# Altium footprint library Miscellaneous Devices LC.PcbLib: 559 footprints (part 3 of 35)
Each footprint in its own frame and in the unit in brackets; x right, y up, seen from the top. Pads: shape width x height; smd on the part's side, far side on the other; paste and mask are expansions set on the pad; w line width, h text height; cw(c..) or ccw(c..) is an arc to the next point about the centre after c.
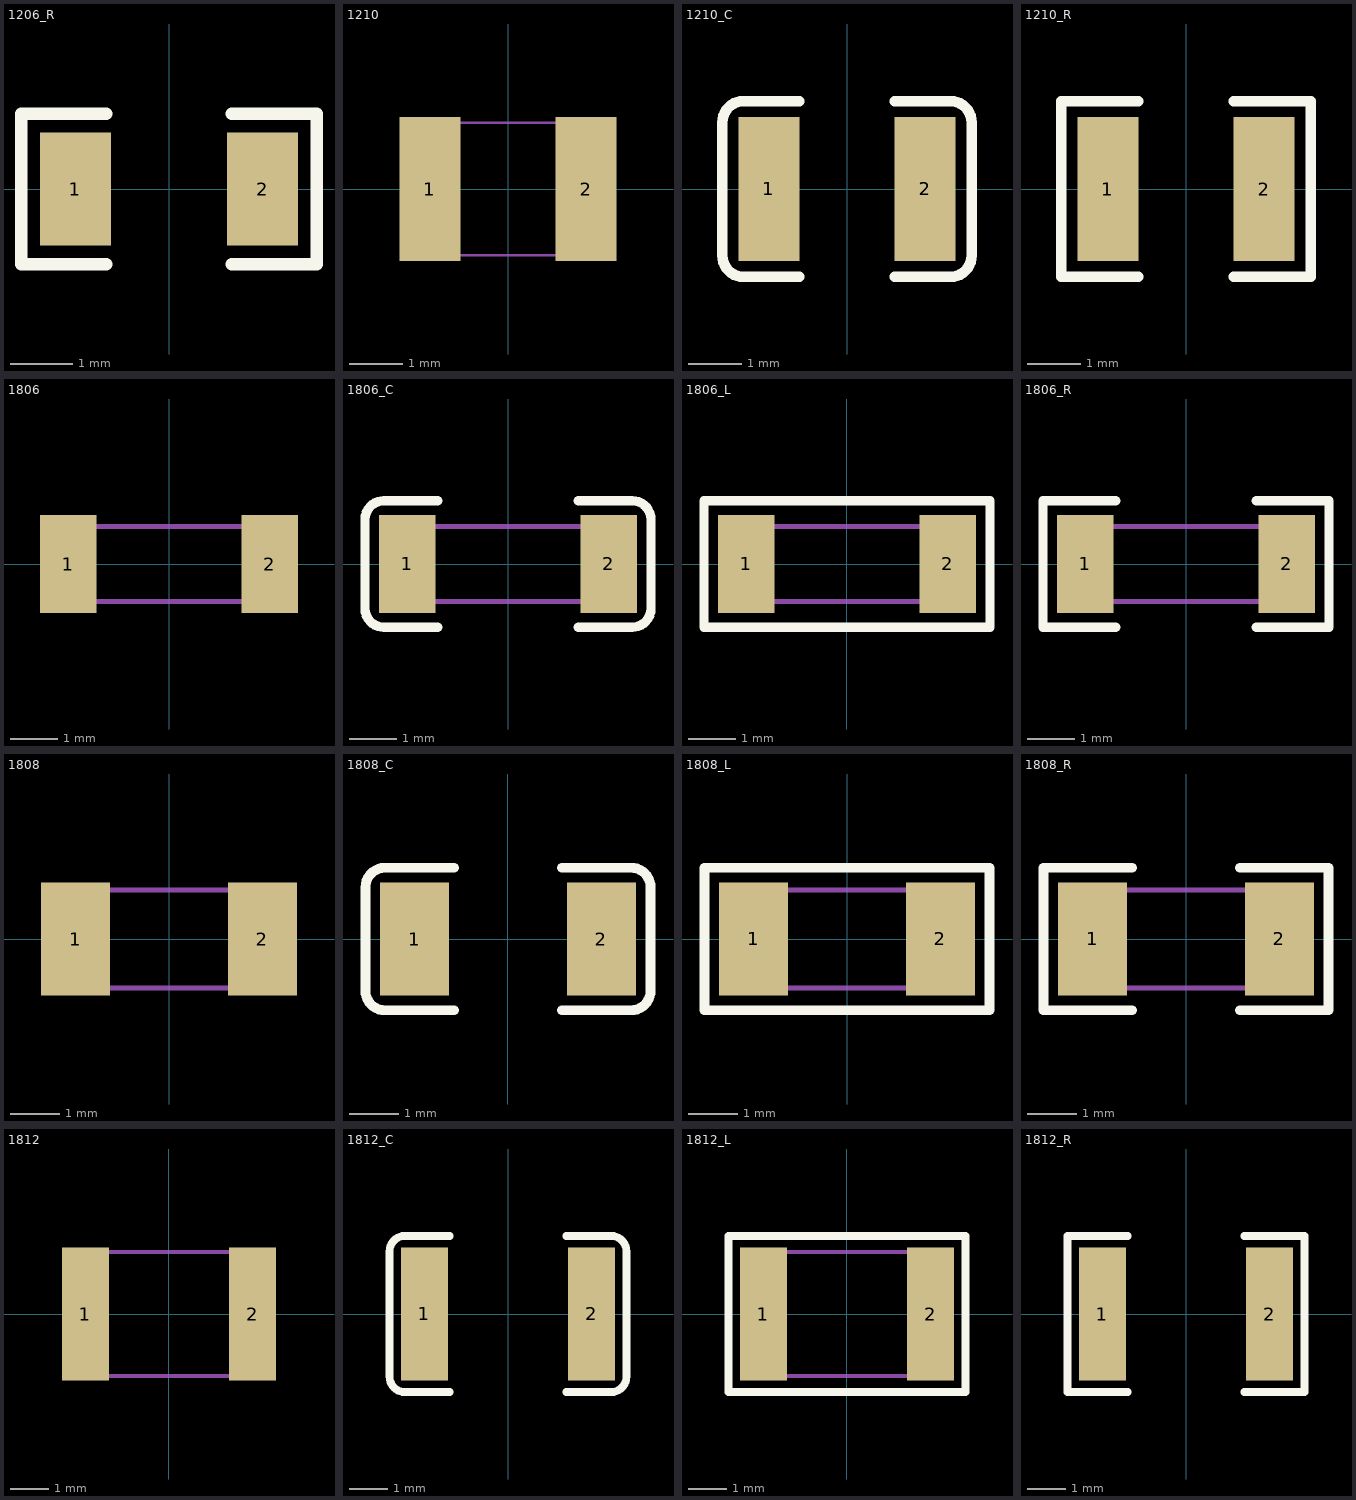
[diagram p2: the footprints below, top view; thin cyan lines are the x and y axes]

## 1206_R [mm]
pads (2):
  rect 1.13x1.8 smd: 1(-1.49,0) 2(1.49,0)
Top Overlay:
  lines w0.2: -1,-1.2 -2.355,-1.2 -2.355,1.2 -1,1.2 ; 1,-1.2 2.355,-1.2 2.355,1.2 1,1.2
3D body "User Library-RES_3216-1206.STEP": height 0.85, standoff 0, extent -1.7,-0.864 1.65,0.866

## 1210 [mm]
pads (2):
  rect 1.16x2.72 smd: 1(-1.475,0) 2(1.475,0)
Mechanical 13:
  lines w0.05: -1.6,-1.25 -1.6,1.25 1.6,1.25 1.6,-1.25 -1.6,-1.25

## 1210_C [mm]
pads (2):
  rect 1.16x2.72 smd: 1(-1.475,0) 2(1.475,0)
Top Overlay:
  lines w0.2: -0.9,-1.66 -1.955,-1.66 cw(c-1.955,-1.26) -2.355,-1.26 -2.355,1.26 cw(c-1.955,1.26) -1.955,1.66 -0.9,1.66 ; 0.9,-1.66 1.955,-1.66 ccw(c1.955,-1.26) 2.355,-1.26 2.355,1.26 ccw(c1.955,1.26) 1.955,1.66 0.9,1.66
3D body "User Library-cap_1210_lowprofile.step": height 1.3, standoff 0, extent -1.6,-1.25 1.6,1.25

## 1210_R [mm]
pads (2):
  rect 1.16x2.72 smd: 1(-1.475,0) 2(1.475,0)
Top Overlay:
  lines w0.2: -0.9,-1.66 -2.355,-1.66 -2.355,1.66 -0.9,1.66 ; 0.9,-1.66 2.355,-1.66 2.355,1.66 0.9,1.66
3D body "User Library-R_1210.STEP": height 0.6, standoff 0, extent -1.6,-1.25 1.6,1.25

## 1806 [mm]
pads (2):
  rect 1.2x2.1 smd: 1(-2.15,0) 2(2.15,0)
Mechanical 13:
  lines w0.1: -2.25,-0.8 -2.25,0.8 2.25,0.8 2.25,-0.8 -2.25,-0.8

## 1806_C [mm]
pads (2):
  rect 1.2x2.1 smd: 1(-2.15,0) 2(2.15,0)
Top Overlay:
  lines w0.2: -1.5,-1.35 -2.65,-1.35 cw(c-2.65,-0.95) -3.05,-0.95 -3.05,0.95 cw(c-2.65,0.95) -2.65,1.35 -1.5,1.35 ; 1.5,-1.35 2.65,-1.35 ccw(c2.65,-0.95) 3.05,-0.95 3.05,0.95 ccw(c2.65,0.95) 2.65,1.35 1.5,1.35
Mechanical 13:
  lines w0.1: -2.25,-0.8 -2.25,0.8 2.25,0.8 2.25,-0.8 -2.25,-0.8

## 1806_L [mm]
pads (2):
  rect 1.2x2.1 smd: 1(-2.15,0) 2(2.15,0)
Top Overlay:
  lines w0.2: -3.05,-1.35 -3.05,1.35 3.05,1.35 3.05,-1.35 -3.05,-1.35
Mechanical 13:
  lines w0.1: -2.25,-0.8 -2.25,0.8 2.25,0.8 2.25,-0.8 -2.25,-0.8

## 1806_R [mm]
pads (2):
  rect 1.2x2.1 smd: 1(-2.15,0) 2(2.15,0)
Top Overlay:
  lines w0.2: -1.5,-1.35 -3.05,-1.35 -3.05,1.35 -1.5,1.35 ; 1.5,-1.35 3.05,-1.35 3.05,1.35 1.5,1.35
Mechanical 13:
  lines w0.1: -2.25,-0.8 2.25,-0.8 2.25,0.8 -2.25,0.8 -2.25,-0.8

## 1808 [mm]
pads (2):
  rect 1.4x2.3 smd: 1(-1.9,0) 2(1.9,0)
Mechanical 13:
  lines w0.1: -2.25,-1 -2.25,1 2.25,1 2.25,-1 -2.25,-1

## 1808_C [mm]
pads (2):
  rect 1.4x2.3 smd: 1(-1.9,0) 2(1.9,0)
Top Overlay:
  lines w0.2: -1.1,-1.45 -2.5,-1.45 cw(c-2.5,-1.05) -2.9,-1.05 -2.9,1.05 cw(c-2.5,1.05) -2.5,1.45 -1.1,1.45 ; 1.1,-1.45 2.5,-1.45 ccw(c2.5,-1.05) 2.9,-1.05 2.9,1.05 ccw(c2.5,1.05) 2.5,1.45 1.1,1.45
3D body "C1808.STEP": height 0.88, standoff -0.02, extent -2.25,-1 2.25,1

## 1808_L [mm]
pads (2):
  rect 1.4x2.3 smd: 1(-1.9,0) 2(1.9,0)
Top Overlay:
  lines w0.2: -2.9,-1.45 -2.9,1.45 2.9,1.45 2.9,-1.45 -2.9,-1.45
Mechanical 13:
  lines w0.1: -2.25,-1 -2.25,1 2.25,1 2.25,-1 -2.25,-1

## 1808_R [mm]
pads (2):
  rect 1.4x2.3 smd: 1(-1.9,0) 2(1.9,0)
Top Overlay:
  lines w0.2: -1.1,-1.45 -2.9,-1.45 -2.9,1.45 -1.1,1.45 ; 1.1,-1.45 2.9,-1.45 2.9,1.45 1.1,1.45
Mechanical 13:
  lines w0.1: -2.25,-1 -2.25,1 2.25,1 2.25,-1 -2.25,-1

## 1812 [mm]
pads (2):
  rect 1.2x3.42 smd: 1(-2.15,0) 2(2.15,0)
Mechanical 13:
  lines w0.1: -2.25,-1.6 -2.25,1.6 2.25,1.6 2.25,-1.6 -2.25,-1.6

## 1812_C [mm]
pads (2):
  rect 1.2x3.42 smd: 1(-2.15,0) 2(2.15,0)
Top Overlay:
  lines w0.2: -1.5,-2.01 -2.65,-2.01 cw(c-2.65,-1.61) -3.05,-1.61 -3.05,1.61 cw(c-2.65,1.61) -2.65,2.01 -1.5,2.01 ; 1.5,-2.01 2.65,-2.01 ccw(c2.65,-1.61) 3.05,-1.61 3.05,1.61 ccw(c2.65,1.61) 2.65,2.01 1.5,2.01
3D body "SW3dPS-1812 SMD Capacitor.STEP": height 1.6, standoff 0, extent -2.25,-1.6 2.25,1.6

## 1812_L [mm]
pads (2):
  rect 1.2x3.42 smd: 1(-2.15,0) 2(2.15,0)
Top Overlay:
  lines w0.2: -3.05,-2.01 3.05,-2.01 3.05,2.01 -3.05,2.01 -3.05,-2.01
Mechanical 13:
  lines w0.1: -2.25,-1.6 2.25,-1.6 2.25,1.6 -2.25,1.6 -2.25,-1.6

## 1812_R [mm]
pads (2):
  rect 1.2x3.42 smd: 1(-2.15,0) 2(2.15,0)
Top Overlay:
  lines w0.2: -1.5,-2.01 -3.05,-2.01 -3.05,2.01 -1.5,2.01 ; 1.5,-2.01 3.05,-2.01 3.05,2.01 1.5,2.01
3D body "R1812.STEP": height 0.59, standoff -0.01, extent -2.251,-1.6 2.249,1.6